# Altium integrated library Maxim Supervisors, Voltage Monitors and Sequencers.IntLib: 631 symbols (part 4 of 13)
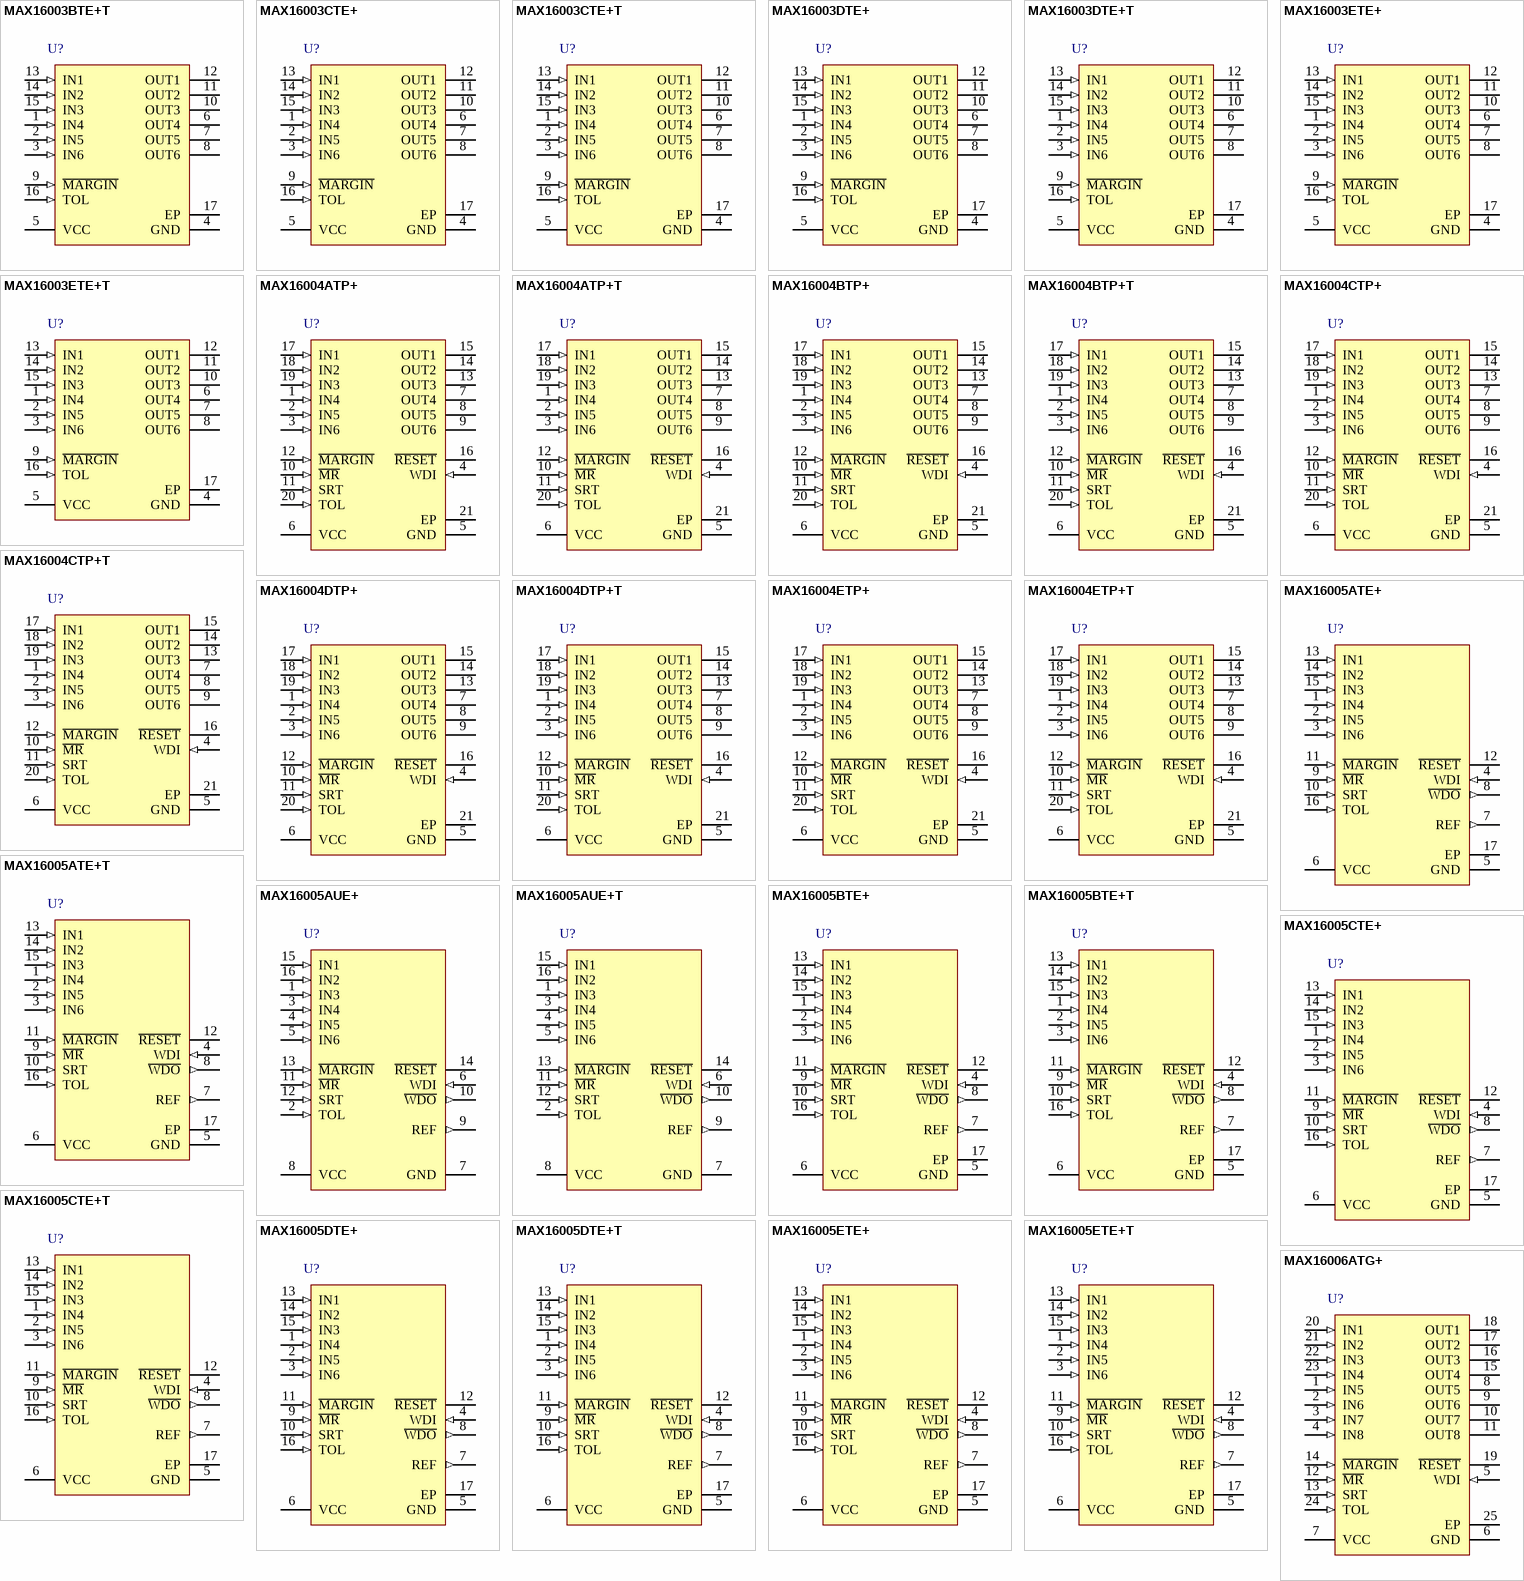
[diagram p20: symbols MAX16003BTE+T to MAX16006ATG+]

## MAX16005DTE+
designator U?
Low-Voltage, Hex-Voltage uP Supervisor , Reset, WDI/WDO, MR, adjustable reset timout, 16-Pin TQFN-EP, -40°C to +125°C, Pb-Free; DatasheetVersion: Rev 5, Oct-2010; PackageVersion: revK, 2011; PackageReference: T1644+4; PackageDescription: 16-Pin Thin Quad Flatpack, No-Leads (TQFN), 4 x 4 x 0.75 mm Body, 0.65 mm Pitch, Exposed Pad, Pb-Free; Code_JEDEC: MO-220WGGC; ComponentLink1Description: Manufacturer URL; ComponentLink1URL: http://www.maxim-ic.com; ComponentLink2Description: Datasheet; ComponentLink2URL: http://datasheets.maxim-ic.com/en/ds/MAX16000-MAX16007.pdf; ComponentLink3Description: Package Specification; ComponentLink3URL: http://pdfserv.maxim-ic.com/package_dwgs/21-0139.PDF
footprint T1644+4_N (QFN, 16-Leads, Body 4x4mm, Pitch 0.65mm, Thermal Pad 2.3x2.3mm, IPC Medium Density)
footprint T1644+4_L (QFN, 16-Leads, Body 4x4mm, Pitch 0.65mm, Thermal Pad 2.3x2.3mm, IPC High Density)
footprint T1644+4_M (QFN, 16-Leads, Body 4x4mm, Pitch 0.65mm, Thermal Pad 2.3x2.3mm, IPC Low Density)
pins: 1 IN4 (in), 2 IN5 (in), 3 IN6 (in), 4 WDI (in), 5 GND (power), 6 VCC (power), 7 REF (out), 8 ~{WDO} (out), 9 ~{MR} (in), 10 SRT (in), 11 ~{MARGIN} (in), 12 ~{RESET} (oc), 13 IN1 (in), 14 IN2 (in), 15 IN3 (in), 16 TOL (in), 17 EP (power)

## MAX16005DTE+T
designator U?
Low-Voltage, Hex-Voltage uP Supervisor , Reset, WDI/WDO, MR, adjustable reset timout, 16-Pin TQFN-EP, -40°C to +125°C, Pb-Free, Tape and Reel; DatasheetVersion: Rev 5, Oct-2010; PackageVersion: revK, 2011; PackageReference: T1644+4; PackageDescription: 16-Pin Thin Quad Flatpack, No-Leads (TQFN), 4 x 4 x 0.75 mm Body, 0.65 mm Pitch, Exposed Pad, Pb-Free; Code_JEDEC: MO-220WGGC; ComponentLink1Description: Manufacturer URL; ComponentLink1URL: http://www.maxim-ic.com; ComponentLink2Description: Datasheet; ComponentLink2URL: http://datasheets.maxim-ic.com/en/ds/MAX16000-MAX16007.pdf; ComponentLink3Description: Package Specification; ComponentLink3URL: http://pdfserv.maxim-ic.com/package_dwgs/21-0139.PDF
footprint T1644+4_N (QFN, 16-Leads, Body 4x4mm, Pitch 0.65mm, Thermal Pad 2.3x2.3mm, IPC Medium Density)
footprint T1644+4_L (QFN, 16-Leads, Body 4x4mm, Pitch 0.65mm, Thermal Pad 2.3x2.3mm, IPC High Density)
footprint T1644+4_M (QFN, 16-Leads, Body 4x4mm, Pitch 0.65mm, Thermal Pad 2.3x2.3mm, IPC Low Density)
pins: 1 IN4 (in), 2 IN5 (in), 3 IN6 (in), 4 WDI (in), 5 GND (power), 6 VCC (power), 7 REF (out), 8 ~{WDO} (out), 9 ~{MR} (in), 10 SRT (in), 11 ~{MARGIN} (in), 12 ~{RESET} (oc), 13 IN1 (in), 14 IN2 (in), 15 IN3 (in), 16 TOL (in), 17 EP (power)

## MAX16005ETE+
designator U?
Low-Voltage, Hex-Voltage uP Supervisor , Reset, WDI/WDO, MR, adjustable reset timout, 16-Pin TQFN-EP, -40°C to +125°C, Pb-Free; DatasheetVersion: Rev 5, Oct-2010; PackageVersion: revK, 2011; PackageReference: T1644+4; PackageDescription: 16-Pin Thin Quad Flatpack, No-Leads (TQFN), 4 x 4 x 0.75 mm Body, 0.65 mm Pitch, Exposed Pad, Pb-Free; Code_JEDEC: MO-220WGGC; ComponentLink1Description: Manufacturer URL; ComponentLink1URL: http://www.maxim-ic.com; ComponentLink2Description: Datasheet; ComponentLink2URL: http://datasheets.maxim-ic.com/en/ds/MAX16000-MAX16007.pdf; ComponentLink3Description: Package Specification; ComponentLink3URL: http://pdfserv.maxim-ic.com/package_dwgs/21-0139.PDF
footprint T1644+4_N (QFN, 16-Leads, Body 4x4mm, Pitch 0.65mm, Thermal Pad 2.3x2.3mm, IPC Medium Density)
footprint T1644+4_L (QFN, 16-Leads, Body 4x4mm, Pitch 0.65mm, Thermal Pad 2.3x2.3mm, IPC High Density)
footprint T1644+4_M (QFN, 16-Leads, Body 4x4mm, Pitch 0.65mm, Thermal Pad 2.3x2.3mm, IPC Low Density)
pins: 1 IN4 (in), 2 IN5 (in), 3 IN6 (in), 4 WDI (in), 5 GND (power), 6 VCC (power), 7 REF (out), 8 ~{WDO} (out), 9 ~{MR} (in), 10 SRT (in), 11 ~{MARGIN} (in), 12 ~{RESET} (oc), 13 IN1 (in), 14 IN2 (in), 15 IN3 (in), 16 TOL (in), 17 EP (power)

## MAX16005ETE+T
designator U?
Low-Voltage, Hex-Voltage uP Supervisor , Reset, WDI/WDO, MR, adjustable reset timout, 16-Pin TQFN-EP, -40°C to +125°C, Pb-Free, Tape and Reel; DatasheetVersion: Rev 5, Oct-2010; PackageVersion: revK, 2011; PackageReference: T1644+4; PackageDescription: 16-Pin Thin Quad Flatpack, No-Leads (TQFN), 4 x 4 x 0.75 mm Body, 0.65 mm Pitch, Exposed Pad, Pb-Free; Code_JEDEC: MO-220WGGC; ComponentLink1Description: Manufacturer URL; ComponentLink1URL: http://www.maxim-ic.com; ComponentLink2Description: Datasheet; ComponentLink2URL: http://datasheets.maxim-ic.com/en/ds/MAX16000-MAX16007.pdf; ComponentLink3Description: Package Specification; ComponentLink3URL: http://pdfserv.maxim-ic.com/package_dwgs/21-0139.PDF
footprint T1644+4_N (QFN, 16-Leads, Body 4x4mm, Pitch 0.65mm, Thermal Pad 2.3x2.3mm, IPC Medium Density)
footprint T1644+4_L (QFN, 16-Leads, Body 4x4mm, Pitch 0.65mm, Thermal Pad 2.3x2.3mm, IPC High Density)
footprint T1644+4_M (QFN, 16-Leads, Body 4x4mm, Pitch 0.65mm, Thermal Pad 2.3x2.3mm, IPC Low Density)
pins: 1 IN4 (in), 2 IN5 (in), 3 IN6 (in), 4 WDI (in), 5 GND (power), 6 VCC (power), 7 REF (out), 8 ~{WDO} (out), 9 ~{MR} (in), 10 SRT (in), 11 ~{MARGIN} (in), 12 ~{RESET} (oc), 13 IN1 (in), 14 IN2 (in), 15 IN3 (in), 16 TOL (in), 17 EP (power)

## MAX16006ATG+
designator U?
Low-Voltage, Octal-Voltage uP Supervisor , 8 outputs, Reset, WDI, MR, adjustable reset timout, 24-Pin TQFN-EP, -40°C to +125°C, Pb-Free; DatasheetVersion: Rev 5, Oct-2010; PackageVersion: revK, 2011; PackageReference: T2444+4; PackageDescription: 24-Pin Thin Quad Flatpack, No Leads, 4 x 4 x 0.75 mm Body, 0.5 mm Pitch, TQFN, Pb-Free; ComponentLink1Description: Manufacturer URL; ComponentLink1URL: http://www.maxim-ic.com; ComponentLink2Description: Datasheet; ComponentLink2URL: http://datasheets.maxim-ic.com/en/ds/MAX16000-MAX16007.pdf; ComponentLink3Description: Package Specification; ComponentLink3URL: http://pdfserv.maxim-ic.com/package_dwgs/21-0139.PDF
footprint T2444+4_N (QFN, 24-Leads, Body 4x4mm, Pitch 0.5mm, Thermal Pad 2.7x2.7mm, IPC Medium Density)
footprint T2444+4_L (QFN, 24-Leads, Body 4x4mm, Pitch 0.5mm, Thermal Pad 2.7x2.7mm, IPC High Density)
footprint T2444+4_M (QFN, 24-Leads, Body 4x4mm, Pitch 0.5mm, Thermal Pad 2.7x2.7mm, IPC Low Density)
pins: 1 IN5 (in), 2 IN6 (in), 3 IN7 (in), 4 IN8 (in), 5 WDI (in), 6 GND (power), 7 VCC (power), 8 OUT5 (oc), 9 OUT6 (oc), 10 OUT7 (oc), 11 OUT8 (oc), 12 ~{MR} (in), 13 SRT (in), 14 ~{MARGIN} (in), 15 OUT4 (oc), 16 OUT3 (oc), 17 OUT2 (oc), 18 OUT1 (oc), 19 ~{RESET} (oc), 20 IN1 (in), 21 IN2 (in), 22 IN3 (in), 23 IN4 (in), 24 TOL (in), 25 EP (power)

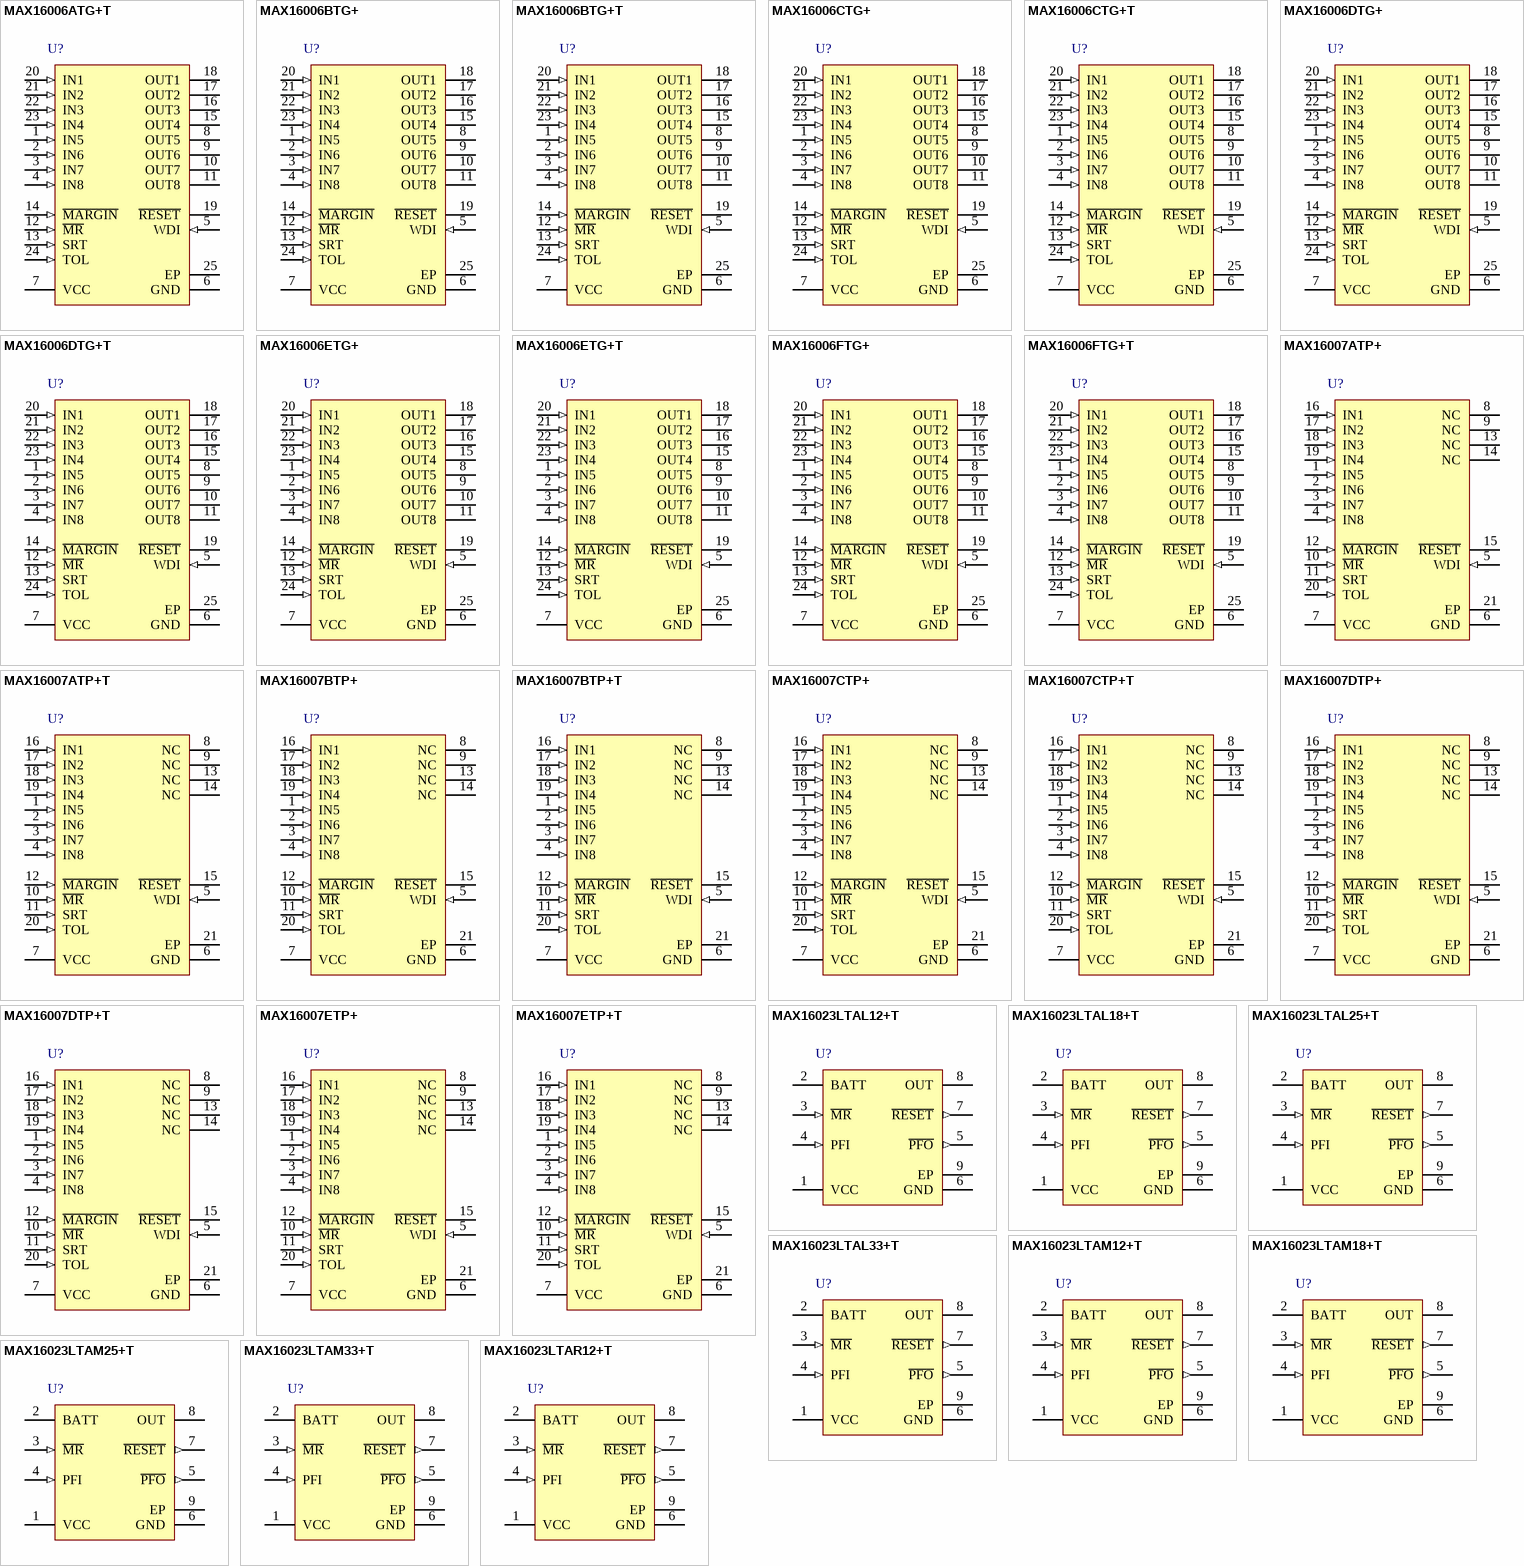
[diagram p4: symbols MAX16006ATG+T to MAX16023LTAR12+T]

## MAX16006ATG+T
designator U?
Low-Voltage, Octal-Voltage uP Supervisor , 8 outputs, Reset, WDI, MR, adjustable reset timout, 24-Pin TQFN-EP, -40°C to +125°C, Pb-Free, Tape and Reel; DatasheetVersion: Rev 5, Oct-2010; PackageVersion: revK, 2011; PackageReference: T2444+4; PackageDescription: 24-Pin Thin Quad Flatpack, No Leads, 4 x 4 x 0.75 mm Body, 0.5 mm Pitch, TQFN, Pb-Free; ComponentLink1Description: Manufacturer URL; ComponentLink1URL: http://www.maxim-ic.com; ComponentLink2Description: Datasheet; ComponentLink2URL: http://datasheets.maxim-ic.com/en/ds/MAX16000-MAX16007.pdf; ComponentLink3Description: Package Specification; ComponentLink3URL: http://pdfserv.maxim-ic.com/package_dwgs/21-0139.PDF
footprint T2444+4_N (QFN, 24-Leads, Body 4x4mm, Pitch 0.5mm, Thermal Pad 2.7x2.7mm, IPC Medium Density)
footprint T2444+4_L (QFN, 24-Leads, Body 4x4mm, Pitch 0.5mm, Thermal Pad 2.7x2.7mm, IPC High Density)
footprint T2444+4_M (QFN, 24-Leads, Body 4x4mm, Pitch 0.5mm, Thermal Pad 2.7x2.7mm, IPC Low Density)
pins: 1 IN5 (in), 2 IN6 (in), 3 IN7 (in), 4 IN8 (in), 5 WDI (in), 6 GND (power), 7 VCC (power), 8 OUT5 (oc), 9 OUT6 (oc), 10 OUT7 (oc), 11 OUT8 (oc), 12 ~{MR} (in), 13 SRT (in), 14 ~{MARGIN} (in), 15 OUT4 (oc), 16 OUT3 (oc), 17 OUT2 (oc), 18 OUT1 (oc), 19 ~{RESET} (oc), 20 IN1 (in), 21 IN2 (in), 22 IN3 (in), 23 IN4 (in), 24 TOL (in), 25 EP (power)

## MAX16006BTG+
designator U?
Low-Voltage, Octal-Voltage uP Supervisor , 8 outputs, Reset, WDI, MR, adjustable reset timout, 24-Pin TQFN-EP, -40°C to +125°C, Pb-Free; DatasheetVersion: Rev 5, Oct-2010; PackageVersion: revK, 2011; PackageReference: T2444+4; PackageDescription: 24-Pin Thin Quad Flatpack, No Leads, 4 x 4 x 0.75 mm Body, 0.5 mm Pitch, TQFN, Pb-Free; ComponentLink1Description: Manufacturer URL; ComponentLink1URL: http://www.maxim-ic.com; ComponentLink2Description: Datasheet; ComponentLink2URL: http://datasheets.maxim-ic.com/en/ds/MAX16000-MAX16007.pdf; ComponentLink3Description: Package Specification; ComponentLink3URL: http://pdfserv.maxim-ic.com/package_dwgs/21-0139.PDF
footprint T2444+4_N (QFN, 24-Leads, Body 4x4mm, Pitch 0.5mm, Thermal Pad 2.7x2.7mm, IPC Medium Density)
footprint T2444+4_L (QFN, 24-Leads, Body 4x4mm, Pitch 0.5mm, Thermal Pad 2.7x2.7mm, IPC High Density)
footprint T2444+4_M (QFN, 24-Leads, Body 4x4mm, Pitch 0.5mm, Thermal Pad 2.7x2.7mm, IPC Low Density)
pins: 1 IN5 (in), 2 IN6 (in), 3 IN7 (in), 4 IN8 (in), 5 WDI (in), 6 GND (power), 7 VCC (power), 8 OUT5 (oc), 9 OUT6 (oc), 10 OUT7 (oc), 11 OUT8 (oc), 12 ~{MR} (in), 13 SRT (in), 14 ~{MARGIN} (in), 15 OUT4 (oc), 16 OUT3 (oc), 17 OUT2 (oc), 18 OUT1 (oc), 19 ~{RESET} (oc), 20 IN1 (in), 21 IN2 (in), 22 IN3 (in), 23 IN4 (in), 24 TOL (in), 25 EP (power)

## MAX16006BTG+T
designator U?
Low-Voltage, Octal-Voltage uP Supervisor , 8 outputs, Reset, WDI, MR, adjustable reset timout, 24-Pin TQFN-EP, -40°C to +125°C, Pb-Free, Tape and Reel; DatasheetVersion: Rev 5, Oct-2010; PackageVersion: revK, 2011; PackageReference: T2444+4; PackageDescription: 24-Pin Thin Quad Flatpack, No Leads, 4 x 4 x 0.75 mm Body, 0.5 mm Pitch, TQFN, Pb-Free; ComponentLink1Description: Manufacturer URL; ComponentLink1URL: http://www.maxim-ic.com; ComponentLink2Description: Datasheet; ComponentLink2URL: http://datasheets.maxim-ic.com/en/ds/MAX16000-MAX16007.pdf; ComponentLink3Description: Package Specification; ComponentLink3URL: http://pdfserv.maxim-ic.com/package_dwgs/21-0139.PDF
footprint T2444+4_N (QFN, 24-Leads, Body 4x4mm, Pitch 0.5mm, Thermal Pad 2.7x2.7mm, IPC Medium Density)
footprint T2444+4_L (QFN, 24-Leads, Body 4x4mm, Pitch 0.5mm, Thermal Pad 2.7x2.7mm, IPC High Density)
footprint T2444+4_M (QFN, 24-Leads, Body 4x4mm, Pitch 0.5mm, Thermal Pad 2.7x2.7mm, IPC Low Density)
pins: 1 IN5 (in), 2 IN6 (in), 3 IN7 (in), 4 IN8 (in), 5 WDI (in), 6 GND (power), 7 VCC (power), 8 OUT5 (oc), 9 OUT6 (oc), 10 OUT7 (oc), 11 OUT8 (oc), 12 ~{MR} (in), 13 SRT (in), 14 ~{MARGIN} (in), 15 OUT4 (oc), 16 OUT3 (oc), 17 OUT2 (oc), 18 OUT1 (oc), 19 ~{RESET} (oc), 20 IN1 (in), 21 IN2 (in), 22 IN3 (in), 23 IN4 (in), 24 TOL (in), 25 EP (power)

## MAX16006CTG+
designator U?
Low-Voltage, Octal-Voltage uP Supervisor , 8 outputs, Reset, WDI, MR, adjustable reset timout, 24-Pin TQFN-EP, -40°C to +125°C, Pb-Free; DatasheetVersion: Rev 5, Oct-2010; PackageVersion: revK, 2011; PackageReference: T2444+4; PackageDescription: 24-Pin Thin Quad Flatpack, No Leads, 4 x 4 x 0.75 mm Body, 0.5 mm Pitch, TQFN, Pb-Free; ComponentLink1Description: Manufacturer URL; ComponentLink1URL: http://www.maxim-ic.com; ComponentLink2Description: Datasheet; ComponentLink2URL: http://datasheets.maxim-ic.com/en/ds/MAX16000-MAX16007.pdf; ComponentLink3Description: Package Specification; ComponentLink3URL: http://pdfserv.maxim-ic.com/package_dwgs/21-0139.PDF
footprint T2444+4_N (QFN, 24-Leads, Body 4x4mm, Pitch 0.5mm, Thermal Pad 2.7x2.7mm, IPC Medium Density)
footprint T2444+4_L (QFN, 24-Leads, Body 4x4mm, Pitch 0.5mm, Thermal Pad 2.7x2.7mm, IPC High Density)
footprint T2444+4_M (QFN, 24-Leads, Body 4x4mm, Pitch 0.5mm, Thermal Pad 2.7x2.7mm, IPC Low Density)
pins: 1 IN5 (in), 2 IN6 (in), 3 IN7 (in), 4 IN8 (in), 5 WDI (in), 6 GND (power), 7 VCC (power), 8 OUT5 (oc), 9 OUT6 (oc), 10 OUT7 (oc), 11 OUT8 (oc), 12 ~{MR} (in), 13 SRT (in), 14 ~{MARGIN} (in), 15 OUT4 (oc), 16 OUT3 (oc), 17 OUT2 (oc), 18 OUT1 (oc), 19 ~{RESET} (oc), 20 IN1 (in), 21 IN2 (in), 22 IN3 (in), 23 IN4 (in), 24 TOL (in), 25 EP (power)

## MAX16006CTG+T
designator U?
Low-Voltage, Octal-Voltage uP Supervisor , 8 outputs, Reset, WDI, MR, adjustable reset timout, 24-Pin TQFN-EP, -40°C to +125°C, Pb-Free, Tape and Reel; DatasheetVersion: Rev 5, Oct-2010; PackageVersion: revK, 2011; PackageReference: T2444+4; PackageDescription: 24-Pin Thin Quad Flatpack, No Leads, 4 x 4 x 0.75 mm Body, 0.5 mm Pitch, TQFN, Pb-Free; ComponentLink1Description: Manufacturer URL; ComponentLink1URL: http://www.maxim-ic.com; ComponentLink2Description: Datasheet; ComponentLink2URL: http://datasheets.maxim-ic.com/en/ds/MAX16000-MAX16007.pdf; ComponentLink3Description: Package Specification; ComponentLink3URL: http://pdfserv.maxim-ic.com/package_dwgs/21-0139.PDF
footprint T2444+4_N (QFN, 24-Leads, Body 4x4mm, Pitch 0.5mm, Thermal Pad 2.7x2.7mm, IPC Medium Density)
footprint T2444+4_L (QFN, 24-Leads, Body 4x4mm, Pitch 0.5mm, Thermal Pad 2.7x2.7mm, IPC High Density)
footprint T2444+4_M (QFN, 24-Leads, Body 4x4mm, Pitch 0.5mm, Thermal Pad 2.7x2.7mm, IPC Low Density)
pins: 1 IN5 (in), 2 IN6 (in), 3 IN7 (in), 4 IN8 (in), 5 WDI (in), 6 GND (power), 7 VCC (power), 8 OUT5 (oc), 9 OUT6 (oc), 10 OUT7 (oc), 11 OUT8 (oc), 12 ~{MR} (in), 13 SRT (in), 14 ~{MARGIN} (in), 15 OUT4 (oc), 16 OUT3 (oc), 17 OUT2 (oc), 18 OUT1 (oc), 19 ~{RESET} (oc), 20 IN1 (in), 21 IN2 (in), 22 IN3 (in), 23 IN4 (in), 24 TOL (in), 25 EP (power)

## MAX16006DTG+
designator U?
Low-Voltage, Octal-Voltage uP Supervisor , 8 outputs, Reset, WDI, MR, adjustable reset timout, 24-Pin TQFN-EP, -40°C to +125°C, Pb-Free; DatasheetVersion: Rev 5, Oct-2010; PackageVersion: revK, 2011; PackageReference: T2444+4; PackageDescription: 24-Pin Thin Quad Flatpack, No Leads, 4 x 4 x 0.75 mm Body, 0.5 mm Pitch, TQFN, Pb-Free; ComponentLink1Description: Manufacturer URL; ComponentLink1URL: http://www.maxim-ic.com; ComponentLink2Description: Datasheet; ComponentLink2URL: http://datasheets.maxim-ic.com/en/ds/MAX16000-MAX16007.pdf; ComponentLink3Description: Package Specification; ComponentLink3URL: http://pdfserv.maxim-ic.com/package_dwgs/21-0139.PDF
footprint T2444+4_N (QFN, 24-Leads, Body 4x4mm, Pitch 0.5mm, Thermal Pad 2.7x2.7mm, IPC Medium Density)
footprint T2444+4_L (QFN, 24-Leads, Body 4x4mm, Pitch 0.5mm, Thermal Pad 2.7x2.7mm, IPC High Density)
footprint T2444+4_M (QFN, 24-Leads, Body 4x4mm, Pitch 0.5mm, Thermal Pad 2.7x2.7mm, IPC Low Density)
pins: 1 IN5 (in), 2 IN6 (in), 3 IN7 (in), 4 IN8 (in), 5 WDI (in), 6 GND (power), 7 VCC (power), 8 OUT5 (oc), 9 OUT6 (oc), 10 OUT7 (oc), 11 OUT8 (oc), 12 ~{MR} (in), 13 SRT (in), 14 ~{MARGIN} (in), 15 OUT4 (oc), 16 OUT3 (oc), 17 OUT2 (oc), 18 OUT1 (oc), 19 ~{RESET} (oc), 20 IN1 (in), 21 IN2 (in), 22 IN3 (in), 23 IN4 (in), 24 TOL (in), 25 EP (power)

## MAX16006DTG+T
designator U?
Low-Voltage, Octal-Voltage uP Supervisor , 8 outputs, Reset, WDI, MR, adjustable reset timout, 24-Pin TQFN-EP, -40°C to +125°C, Pb-Free, Tape and Reel; DatasheetVersion: Rev 5, Oct-2010; PackageVersion: revK, 2011; PackageReference: T2444+4; PackageDescription: 24-Pin Thin Quad Flatpack, No Leads, 4 x 4 x 0.75 mm Body, 0.5 mm Pitch, TQFN, Pb-Free; ComponentLink1Description: Manufacturer URL; ComponentLink1URL: http://www.maxim-ic.com; ComponentLink2Description: Datasheet; ComponentLink2URL: http://datasheets.maxim-ic.com/en/ds/MAX16000-MAX16007.pdf; ComponentLink3Description: Package Specification; ComponentLink3URL: http://pdfserv.maxim-ic.com/package_dwgs/21-0139.PDF
footprint T2444+4_N (QFN, 24-Leads, Body 4x4mm, Pitch 0.5mm, Thermal Pad 2.7x2.7mm, IPC Medium Density)
footprint T2444+4_L (QFN, 24-Leads, Body 4x4mm, Pitch 0.5mm, Thermal Pad 2.7x2.7mm, IPC High Density)
footprint T2444+4_M (QFN, 24-Leads, Body 4x4mm, Pitch 0.5mm, Thermal Pad 2.7x2.7mm, IPC Low Density)
pins: 1 IN5 (in), 2 IN6 (in), 3 IN7 (in), 4 IN8 (in), 5 WDI (in), 6 GND (power), 7 VCC (power), 8 OUT5 (oc), 9 OUT6 (oc), 10 OUT7 (oc), 11 OUT8 (oc), 12 ~{MR} (in), 13 SRT (in), 14 ~{MARGIN} (in), 15 OUT4 (oc), 16 OUT3 (oc), 17 OUT2 (oc), 18 OUT1 (oc), 19 ~{RESET} (oc), 20 IN1 (in), 21 IN2 (in), 22 IN3 (in), 23 IN4 (in), 24 TOL (in), 25 EP (power)

## MAX16006ETG+
designator U?
Low-Voltage, Octal-Voltage uP Supervisor , 8 outputs, Reset, WDI, MR, adjustable reset timout, 24-Pin TQFN-EP, -40°C to +125°C, Pb-Free; DatasheetVersion: Rev 5, Oct-2010; PackageVersion: revK, 2011; PackageReference: T2444+4; PackageDescription: 24-Pin Thin Quad Flatpack, No Leads, 4 x 4 x 0.75 mm Body, 0.5 mm Pitch, TQFN, Pb-Free; ComponentLink1Description: Manufacturer URL; ComponentLink1URL: http://www.maxim-ic.com; ComponentLink2Description: Datasheet; ComponentLink2URL: http://datasheets.maxim-ic.com/en/ds/MAX16000-MAX16007.pdf; ComponentLink3Description: Package Specification; ComponentLink3URL: http://pdfserv.maxim-ic.com/package_dwgs/21-0139.PDF
footprint T2444+4_N (QFN, 24-Leads, Body 4x4mm, Pitch 0.5mm, Thermal Pad 2.7x2.7mm, IPC Medium Density)
footprint T2444+4_L (QFN, 24-Leads, Body 4x4mm, Pitch 0.5mm, Thermal Pad 2.7x2.7mm, IPC High Density)
footprint T2444+4_M (QFN, 24-Leads, Body 4x4mm, Pitch 0.5mm, Thermal Pad 2.7x2.7mm, IPC Low Density)
pins: 1 IN5 (in), 2 IN6 (in), 3 IN7 (in), 4 IN8 (in), 5 WDI (in), 6 GND (power), 7 VCC (power), 8 OUT5 (oc), 9 OUT6 (oc), 10 OUT7 (oc), 11 OUT8 (oc), 12 ~{MR} (in), 13 SRT (in), 14 ~{MARGIN} (in), 15 OUT4 (oc), 16 OUT3 (oc), 17 OUT2 (oc), 18 OUT1 (oc), 19 ~{RESET} (oc), 20 IN1 (in), 21 IN2 (in), 22 IN3 (in), 23 IN4 (in), 24 TOL (in), 25 EP (power)

## MAX16006ETG+T
designator U?
Low-Voltage, Octal-Voltage uP Supervisor , 8 outputs, Reset, WDI, MR, adjustable reset timout, 24-Pin TQFN-EP, -40°C to +125°C, Pb-Free, Tape and Reel; DatasheetVersion: Rev 5, Oct-2010; PackageVersion: revK, 2011; PackageReference: T2444+4; PackageDescription: 24-Pin Thin Quad Flatpack, No Leads, 4 x 4 x 0.75 mm Body, 0.5 mm Pitch, TQFN, Pb-Free; ComponentLink1Description: Manufacturer URL; ComponentLink1URL: http://www.maxim-ic.com; ComponentLink2Description: Datasheet; ComponentLink2URL: http://datasheets.maxim-ic.com/en/ds/MAX16000-MAX16007.pdf; ComponentLink3Description: Package Specification; ComponentLink3URL: http://pdfserv.maxim-ic.com/package_dwgs/21-0139.PDF
footprint T2444+4_N (QFN, 24-Leads, Body 4x4mm, Pitch 0.5mm, Thermal Pad 2.7x2.7mm, IPC Medium Density)
footprint T2444+4_L (QFN, 24-Leads, Body 4x4mm, Pitch 0.5mm, Thermal Pad 2.7x2.7mm, IPC High Density)
footprint T2444+4_M (QFN, 24-Leads, Body 4x4mm, Pitch 0.5mm, Thermal Pad 2.7x2.7mm, IPC Low Density)
pins: 1 IN5 (in), 2 IN6 (in), 3 IN7 (in), 4 IN8 (in), 5 WDI (in), 6 GND (power), 7 VCC (power), 8 OUT5 (oc), 9 OUT6 (oc), 10 OUT7 (oc), 11 OUT8 (oc), 12 ~{MR} (in), 13 SRT (in), 14 ~{MARGIN} (in), 15 OUT4 (oc), 16 OUT3 (oc), 17 OUT2 (oc), 18 OUT1 (oc), 19 ~{RESET} (oc), 20 IN1 (in), 21 IN2 (in), 22 IN3 (in), 23 IN4 (in), 24 TOL (in), 25 EP (power)

## MAX16006FTG+
designator U?
Low-Voltage, Octal-Voltage uP Supervisor , 8 outputs, Reset, WDI, MR, adjustable reset timout, 24-Pin TQFN-EP, -40°C to +125°C, Pb-Free; DatasheetVersion: Rev 5, Oct-2010; PackageVersion: revK, 2011; PackageReference: T2444+4; PackageDescription: 24-Pin Thin Quad Flatpack, No Leads, 4 x 4 x 0.75 mm Body, 0.5 mm Pitch, TQFN, Pb-Free; ComponentLink1Description: Manufacturer URL; ComponentLink1URL: http://www.maxim-ic.com; ComponentLink2Description: Datasheet; ComponentLink2URL: http://datasheets.maxim-ic.com/en/ds/MAX16000-MAX16007.pdf; ComponentLink3Description: Package Specification; ComponentLink3URL: http://pdfserv.maxim-ic.com/package_dwgs/21-0139.PDF
footprint T2444+4_N (QFN, 24-Leads, Body 4x4mm, Pitch 0.5mm, Thermal Pad 2.7x2.7mm, IPC Medium Density)
footprint T2444+4_L (QFN, 24-Leads, Body 4x4mm, Pitch 0.5mm, Thermal Pad 2.7x2.7mm, IPC High Density)
footprint T2444+4_M (QFN, 24-Leads, Body 4x4mm, Pitch 0.5mm, Thermal Pad 2.7x2.7mm, IPC Low Density)
pins: 1 IN5 (in), 2 IN6 (in), 3 IN7 (in), 4 IN8 (in), 5 WDI (in), 6 GND (power), 7 VCC (power), 8 OUT5 (oc), 9 OUT6 (oc), 10 OUT7 (oc), 11 OUT8 (oc), 12 ~{MR} (in), 13 SRT (in), 14 ~{MARGIN} (in), 15 OUT4 (oc), 16 OUT3 (oc), 17 OUT2 (oc), 18 OUT1 (oc), 19 ~{RESET} (oc), 20 IN1 (in), 21 IN2 (in), 22 IN3 (in), 23 IN4 (in), 24 TOL (in), 25 EP (power)

## MAX16006FTG+T
designator U?
Low-Voltage, Octal-Voltage uP Supervisor , 8 outputs, Reset, WDI, MR, adjustable reset timout, 24-Pin TQFN-EP, -40°C to +125°C, Pb-Free, Tape and Reel; DatasheetVersion: Rev 5, Oct-2010; PackageVersion: revK, 2011; PackageReference: T2444+4; PackageDescription: 24-Pin Thin Quad Flatpack, No Leads, 4 x 4 x 0.75 mm Body, 0.5 mm Pitch, TQFN, Pb-Free; ComponentLink1Description: Manufacturer URL; ComponentLink1URL: http://www.maxim-ic.com; ComponentLink2Description: Datasheet; ComponentLink2URL: http://datasheets.maxim-ic.com/en/ds/MAX16000-MAX16007.pdf; ComponentLink3Description: Package Specification; ComponentLink3URL: http://pdfserv.maxim-ic.com/package_dwgs/21-0139.PDF
footprint T2444+4_N (QFN, 24-Leads, Body 4x4mm, Pitch 0.5mm, Thermal Pad 2.7x2.7mm, IPC Medium Density)
footprint T2444+4_L (QFN, 24-Leads, Body 4x4mm, Pitch 0.5mm, Thermal Pad 2.7x2.7mm, IPC High Density)
footprint T2444+4_M (QFN, 24-Leads, Body 4x4mm, Pitch 0.5mm, Thermal Pad 2.7x2.7mm, IPC Low Density)
pins: 1 IN5 (in), 2 IN6 (in), 3 IN7 (in), 4 IN8 (in), 5 WDI (in), 6 GND (power), 7 VCC (power), 8 OUT5 (oc), 9 OUT6 (oc), 10 OUT7 (oc), 11 OUT8 (oc), 12 ~{MR} (in), 13 SRT (in), 14 ~{MARGIN} (in), 15 OUT4 (oc), 16 OUT3 (oc), 17 OUT2 (oc), 18 OUT1 (oc), 19 ~{RESET} (oc), 20 IN1 (in), 21 IN2 (in), 22 IN3 (in), 23 IN4 (in), 24 TOL (in), 25 EP (power)

## MAX16007ATP+
designator U?
Low-Voltage, Octal-Voltage uP Supervisor , Reset, WDI, MR, adjustable reset timout, 20-Pin TQFN-EP, -40°C to +125°C, Pb-Free; DatasheetVersion: Rev 5, Oct-2010; PackageVersion: revK, 2011; PackageReference: T2044+3; PackageDescription: 20-Pin Thin Quad Flatpack, No-Leads, 4 x 4 x 0.75 mm Body, 0.5 mm Pitch, TQFN, Pb-Free; Code_JEDEC: MO-220; ComponentLink1Description: Manufacturer URL; ComponentLink1URL: http://www.maxim-ic.com; ComponentLink2Description: Datasheet; ComponentLink2URL: http://datasheets.maxim-ic.com/en/ds/MAX16000-MAX16007.pdf; ComponentLink3Description: Package Specification; ComponentLink3URL: http://pdfserv.maxim-ic.com/package_dwgs/21-0139.PDF
footprint T2044+3_N (QFN, 20-Leads, Body 4x4mm, Pitch 0.5mm, Thermal Pad 2.1x2.1mm, IPC Medium Density)
footprint T2044+3_L (QFN, 20-Leads, Body 4x4mm, Pitch 0.5mm, Thermal Pad 2.1x2.1mm, IPC High Density)
footprint T2044+3_M (QFN, 20-Leads, Body 4x4mm, Pitch 0.5mm, Thermal Pad 2.1x2.1mm, IPC Low Density)
pins: 1 IN5 (in), 2 IN6 (in), 3 IN7 (in), 4 IN8 (in), 5 WDI (in), 6 GND (power), 7 VCC (power), 8 NC, 9 NC, 10 ~{MR} (in), 11 SRT (in), 12 ~{MARGIN} (in), 13 NC, 14 NC, 15 ~{RESET} (oc), 16 IN1 (in), 17 IN2 (in), 18 IN3 (in), 19 IN4 (in), 20 TOL (in), 21 EP (power)

## MAX16007ATP+T
designator U?
Low-Voltage, Octal-Voltage uP Supervisor , Reset, WDI, MR, adjustable reset timout, 20-Pin TQFN-EP, -40°C to +125°C, Pb-Free, Tape and Reel; DatasheetVersion: Rev 5, Oct-2010; PackageVersion: revK, 2011; PackageReference: T2044+3; PackageDescription: 20-Pin Thin Quad Flatpack, No-Leads, 4 x 4 x 0.75 mm Body, 0.5 mm Pitch, TQFN, Pb-Free; Code_JEDEC: MO-220; ComponentLink1Description: Manufacturer URL; ComponentLink1URL: http://www.maxim-ic.com; ComponentLink2Description: Datasheet; ComponentLink2URL: http://datasheets.maxim-ic.com/en/ds/MAX16000-MAX16007.pdf; ComponentLink3Description: Package Specification; ComponentLink3URL: http://pdfserv.maxim-ic.com/package_dwgs/21-0139.PDF
footprint T2044+3_N (QFN, 20-Leads, Body 4x4mm, Pitch 0.5mm, Thermal Pad 2.1x2.1mm, IPC Medium Density)
footprint T2044+3_L (QFN, 20-Leads, Body 4x4mm, Pitch 0.5mm, Thermal Pad 2.1x2.1mm, IPC High Density)
footprint T2044+3_M (QFN, 20-Leads, Body 4x4mm, Pitch 0.5mm, Thermal Pad 2.1x2.1mm, IPC Low Density)
pins: 1 IN5 (in), 2 IN6 (in), 3 IN7 (in), 4 IN8 (in), 5 WDI (in), 6 GND (power), 7 VCC (power), 8 NC, 9 NC, 10 ~{MR} (in), 11 SRT (in), 12 ~{MARGIN} (in), 13 NC, 14 NC, 15 ~{RESET} (oc), 16 IN1 (in), 17 IN2 (in), 18 IN3 (in), 19 IN4 (in), 20 TOL (in), 21 EP (power)

## MAX16007BTP+
designator U?
Low-Voltage, Octal-Voltage uP Supervisor , Reset, WDI, MR, adjustable reset timout, 20-Pin TQFN-EP, -40°C to +125°C, Pb-Free; DatasheetVersion: Rev 5, Oct-2010; PackageVersion: revK, 2011; PackageReference: T2044+3; PackageDescription: 20-Pin Thin Quad Flatpack, No-Leads, 4 x 4 x 0.75 mm Body, 0.5 mm Pitch, TQFN, Pb-Free; Code_JEDEC: MO-220; ComponentLink1Description: Manufacturer URL; ComponentLink1URL: http://www.maxim-ic.com; ComponentLink2Description: Datasheet; ComponentLink2URL: http://datasheets.maxim-ic.com/en/ds/MAX16000-MAX16007.pdf; ComponentLink3Description: Package Specification; ComponentLink3URL: http://pdfserv.maxim-ic.com/package_dwgs/21-0139.PDF
footprint T2044+3_N (QFN, 20-Leads, Body 4x4mm, Pitch 0.5mm, Thermal Pad 2.1x2.1mm, IPC Medium Density)
footprint T2044+3_L (QFN, 20-Leads, Body 4x4mm, Pitch 0.5mm, Thermal Pad 2.1x2.1mm, IPC High Density)
footprint T2044+3_M (QFN, 20-Leads, Body 4x4mm, Pitch 0.5mm, Thermal Pad 2.1x2.1mm, IPC Low Density)
pins: 1 IN5 (in), 2 IN6 (in), 3 IN7 (in), 4 IN8 (in), 5 WDI (in), 6 GND (power), 7 VCC (power), 8 NC, 9 NC, 10 ~{MR} (in), 11 SRT (in), 12 ~{MARGIN} (in), 13 NC, 14 NC, 15 ~{RESET} (oc), 16 IN1 (in), 17 IN2 (in), 18 IN3 (in), 19 IN4 (in), 20 TOL (in), 21 EP (power)

## MAX16007BTP+T
designator U?
Low-Voltage, Octal-Voltage uP Supervisor , Reset, WDI, MR, adjustable reset timout, 20-Pin TQFN-EP, -40°C to +125°C, Pb-Free, Tape and Reel; DatasheetVersion: Rev 5, Oct-2010; PackageVersion: revK, 2011; PackageReference: T2044+3; PackageDescription: 20-Pin Thin Quad Flatpack, No-Leads, 4 x 4 x 0.75 mm Body, 0.5 mm Pitch, TQFN, Pb-Free; Code_JEDEC: MO-220; ComponentLink1Description: Manufacturer URL; ComponentLink1URL: http://www.maxim-ic.com; ComponentLink2Description: Datasheet; ComponentLink2URL: http://datasheets.maxim-ic.com/en/ds/MAX16000-MAX16007.pdf; ComponentLink3Description: Package Specification; ComponentLink3URL: http://pdfserv.maxim-ic.com/package_dwgs/21-0139.PDF
footprint T2044+3_N (QFN, 20-Leads, Body 4x4mm, Pitch 0.5mm, Thermal Pad 2.1x2.1mm, IPC Medium Density)
footprint T2044+3_L (QFN, 20-Leads, Body 4x4mm, Pitch 0.5mm, Thermal Pad 2.1x2.1mm, IPC High Density)
footprint T2044+3_M (QFN, 20-Leads, Body 4x4mm, Pitch 0.5mm, Thermal Pad 2.1x2.1mm, IPC Low Density)
pins: 1 IN5 (in), 2 IN6 (in), 3 IN7 (in), 4 IN8 (in), 5 WDI (in), 6 GND (power), 7 VCC (power), 8 NC, 9 NC, 10 ~{MR} (in), 11 SRT (in), 12 ~{MARGIN} (in), 13 NC, 14 NC, 15 ~{RESET} (oc), 16 IN1 (in), 17 IN2 (in), 18 IN3 (in), 19 IN4 (in), 20 TOL (in), 21 EP (power)

## MAX16007CTP+
designator U?
Low-Voltage, Octal-Voltage uP Supervisor , Reset, WDI, MR, adjustable reset timout, 20-Pin TQFN-EP, -40°C to +125°C, Pb-Free; DatasheetVersion: Rev 5, Oct-2010; PackageVersion: revK, 2011; PackageReference: T2044+3; PackageDescription: 20-Pin Thin Quad Flatpack, No-Leads, 4 x 4 x 0.75 mm Body, 0.5 mm Pitch, TQFN, Pb-Free; Code_JEDEC: MO-220; ComponentLink1Description: Manufacturer URL; ComponentLink1URL: http://www.maxim-ic.com; ComponentLink2Description: Datasheet; ComponentLink2URL: http://datasheets.maxim-ic.com/en/ds/MAX16000-MAX16007.pdf; ComponentLink3Description: Package Specification; ComponentLink3URL: http://pdfserv.maxim-ic.com/package_dwgs/21-0139.PDF
footprint T2044+3_N (QFN, 20-Leads, Body 4x4mm, Pitch 0.5mm, Thermal Pad 2.1x2.1mm, IPC Medium Density)
footprint T2044+3_L (QFN, 20-Leads, Body 4x4mm, Pitch 0.5mm, Thermal Pad 2.1x2.1mm, IPC High Density)
footprint T2044+3_M (QFN, 20-Leads, Body 4x4mm, Pitch 0.5mm, Thermal Pad 2.1x2.1mm, IPC Low Density)
pins: 1 IN5 (in), 2 IN6 (in), 3 IN7 (in), 4 IN8 (in), 5 WDI (in), 6 GND (power), 7 VCC (power), 8 NC, 9 NC, 10 ~{MR} (in), 11 SRT (in), 12 ~{MARGIN} (in), 13 NC, 14 NC, 15 ~{RESET} (oc), 16 IN1 (in), 17 IN2 (in), 18 IN3 (in), 19 IN4 (in), 20 TOL (in), 21 EP (power)

## MAX16007CTP+T
designator U?
Low-Voltage, Octal-Voltage uP Supervisor , Reset, WDI, MR, adjustable reset timout, 20-Pin TQFN-EP, -40°C to +125°C, Pb-Free, Tape and Reel; DatasheetVersion: Rev 5, Oct-2010; PackageVersion: revK, 2011; PackageReference: T2044+3; PackageDescription: 20-Pin Thin Quad Flatpack, No-Leads, 4 x 4 x 0.75 mm Body, 0.5 mm Pitch, TQFN, Pb-Free; Code_JEDEC: MO-220; ComponentLink1Description: Manufacturer URL; ComponentLink1URL: http://www.maxim-ic.com; ComponentLink2Description: Datasheet; ComponentLink2URL: http://datasheets.maxim-ic.com/en/ds/MAX16000-MAX16007.pdf; ComponentLink3Description: Package Specification; ComponentLink3URL: http://pdfserv.maxim-ic.com/package_dwgs/21-0139.PDF
footprint T2044+3_N (QFN, 20-Leads, Body 4x4mm, Pitch 0.5mm, Thermal Pad 2.1x2.1mm, IPC Medium Density)
footprint T2044+3_L (QFN, 20-Leads, Body 4x4mm, Pitch 0.5mm, Thermal Pad 2.1x2.1mm, IPC High Density)
footprint T2044+3_M (QFN, 20-Leads, Body 4x4mm, Pitch 0.5mm, Thermal Pad 2.1x2.1mm, IPC Low Density)
pins: 1 IN5 (in), 2 IN6 (in), 3 IN7 (in), 4 IN8 (in), 5 WDI (in), 6 GND (power), 7 VCC (power), 8 NC, 9 NC, 10 ~{MR} (in), 11 SRT (in), 12 ~{MARGIN} (in), 13 NC, 14 NC, 15 ~{RESET} (oc), 16 IN1 (in), 17 IN2 (in), 18 IN3 (in), 19 IN4 (in), 20 TOL (in), 21 EP (power)

## MAX16007DTP+
designator U?
Low-Voltage, Octal-Voltage uP Supervisor , Reset, WDI, MR, adjustable reset timout, 20-Pin TQFN-EP, -40°C to +125°C, Pb-Free; DatasheetVersion: Rev 5, Oct-2010; PackageVersion: revK, 2011; PackageReference: T2044+3; PackageDescription: 20-Pin Thin Quad Flatpack, No-Leads, 4 x 4 x 0.75 mm Body, 0.5 mm Pitch, TQFN, Pb-Free; Code_JEDEC: MO-220; ComponentLink1Description: Manufacturer URL; ComponentLink1URL: http://www.maxim-ic.com; ComponentLink2Description: Datasheet; ComponentLink2URL: http://datasheets.maxim-ic.com/en/ds/MAX16000-MAX16007.pdf; ComponentLink3Description: Package Specification; ComponentLink3URL: http://pdfserv.maxim-ic.com/package_dwgs/21-0139.PDF
footprint T2044+3_N (QFN, 20-Leads, Body 4x4mm, Pitch 0.5mm, Thermal Pad 2.1x2.1mm, IPC Medium Density)
footprint T2044+3_L (QFN, 20-Leads, Body 4x4mm, Pitch 0.5mm, Thermal Pad 2.1x2.1mm, IPC High Density)
footprint T2044+3_M (QFN, 20-Leads, Body 4x4mm, Pitch 0.5mm, Thermal Pad 2.1x2.1mm, IPC Low Density)
pins: 1 IN5 (in), 2 IN6 (in), 3 IN7 (in), 4 IN8 (in), 5 WDI (in), 6 GND (power), 7 VCC (power), 8 NC, 9 NC, 10 ~{MR} (in), 11 SRT (in), 12 ~{MARGIN} (in), 13 NC, 14 NC, 15 ~{RESET} (oc), 16 IN1 (in), 17 IN2 (in), 18 IN3 (in), 19 IN4 (in), 20 TOL (in), 21 EP (power)

## MAX16007DTP+T
designator U?
Low-Voltage, Octal-Voltage uP Supervisor , Reset, WDI, MR, adjustable reset timout, 20-Pin TQFN-EP, -40°C to +125°C, Pb-Free, Tape and Reel; DatasheetVersion: Rev 5, Oct-2010; PackageVersion: revK, 2011; PackageReference: T2044+3; PackageDescription: 20-Pin Thin Quad Flatpack, No-Leads, 4 x 4 x 0.75 mm Body, 0.5 mm Pitch, TQFN, Pb-Free; Code_JEDEC: MO-220; ComponentLink1Description: Manufacturer URL; ComponentLink1URL: http://www.maxim-ic.com; ComponentLink2Description: Datasheet; ComponentLink2URL: http://datasheets.maxim-ic.com/en/ds/MAX16000-MAX16007.pdf; ComponentLink3Description: Package Specification; ComponentLink3URL: http://pdfserv.maxim-ic.com/package_dwgs/21-0139.PDF
footprint T2044+3_N (QFN, 20-Leads, Body 4x4mm, Pitch 0.5mm, Thermal Pad 2.1x2.1mm, IPC Medium Density)
footprint T2044+3_L (QFN, 20-Leads, Body 4x4mm, Pitch 0.5mm, Thermal Pad 2.1x2.1mm, IPC High Density)
footprint T2044+3_M (QFN, 20-Leads, Body 4x4mm, Pitch 0.5mm, Thermal Pad 2.1x2.1mm, IPC Low Density)
pins: 1 IN5 (in), 2 IN6 (in), 3 IN7 (in), 4 IN8 (in), 5 WDI (in), 6 GND (power), 7 VCC (power), 8 NC, 9 NC, 10 ~{MR} (in), 11 SRT (in), 12 ~{MARGIN} (in), 13 NC, 14 NC, 15 ~{RESET} (oc), 16 IN1 (in), 17 IN2 (in), 18 IN3 (in), 19 IN4 (in), 20 TOL (in), 21 EP (power)

## MAX16007ETP+
designator U?
Low-Voltage, Octal-Voltage uP Supervisor , Reset, WDI, MR, adjustable reset timout, 20-Pin TQFN-EP, -40°C to +125°C, Pb-Free; DatasheetVersion: Rev 5, Oct-2010; PackageVersion: revK, 2011; PackageReference: T2044+3; PackageDescription: 20-Pin Thin Quad Flatpack, No-Leads, 4 x 4 x 0.75 mm Body, 0.5 mm Pitch, TQFN, Pb-Free; Code_JEDEC: MO-220; ComponentLink1Description: Manufacturer URL; ComponentLink1URL: http://www.maxim-ic.com; ComponentLink2Description: Datasheet; ComponentLink2URL: http://datasheets.maxim-ic.com/en/ds/MAX16000-MAX16007.pdf; ComponentLink3Description: Package Specification; ComponentLink3URL: http://pdfserv.maxim-ic.com/package_dwgs/21-0139.PDF
footprint T2044+3_N (QFN, 20-Leads, Body 4x4mm, Pitch 0.5mm, Thermal Pad 2.1x2.1mm, IPC Medium Density)
footprint T2044+3_L (QFN, 20-Leads, Body 4x4mm, Pitch 0.5mm, Thermal Pad 2.1x2.1mm, IPC High Density)
footprint T2044+3_M (QFN, 20-Leads, Body 4x4mm, Pitch 0.5mm, Thermal Pad 2.1x2.1mm, IPC Low Density)
pins: 1 IN5 (in), 2 IN6 (in), 3 IN7 (in), 4 IN8 (in), 5 WDI (in), 6 GND (power), 7 VCC (power), 8 NC, 9 NC, 10 ~{MR} (in), 11 SRT (in), 12 ~{MARGIN} (in), 13 NC, 14 NC, 15 ~{RESET} (oc), 16 IN1 (in), 17 IN2 (in), 18 IN3 (in), 19 IN4 (in), 20 TOL (in), 21 EP (power)

## MAX16007ETP+T
designator U?
Low-Voltage, Octal-Voltage uP Supervisor , Reset, WDI, MR, adjustable reset timout, 20-Pin TQFN-EP, -40°C to +125°C, Pb-Free, Tape and Reel; DatasheetVersion: Rev 5, Oct-2010; PackageVersion: revK, 2011; PackageReference: T2044+3; PackageDescription: 20-Pin Thin Quad Flatpack, No-Leads, 4 x 4 x 0.75 mm Body, 0.5 mm Pitch, TQFN, Pb-Free; Code_JEDEC: MO-220; ComponentLink1Description: Manufacturer URL; ComponentLink1URL: http://www.maxim-ic.com; ComponentLink2Description: Datasheet; ComponentLink2URL: http://datasheets.maxim-ic.com/en/ds/MAX16000-MAX16007.pdf; ComponentLink3Description: Package Specification; ComponentLink3URL: http://pdfserv.maxim-ic.com/package_dwgs/21-0139.PDF
footprint T2044+3_N (QFN, 20-Leads, Body 4x4mm, Pitch 0.5mm, Thermal Pad 2.1x2.1mm, IPC Medium Density)
footprint T2044+3_L (QFN, 20-Leads, Body 4x4mm, Pitch 0.5mm, Thermal Pad 2.1x2.1mm, IPC High Density)
footprint T2044+3_M (QFN, 20-Leads, Body 4x4mm, Pitch 0.5mm, Thermal Pad 2.1x2.1mm, IPC Low Density)
pins: 1 IN5 (in), 2 IN6 (in), 3 IN7 (in), 4 IN8 (in), 5 WDI (in), 6 GND (power), 7 VCC (power), 8 NC, 9 NC, 10 ~{MR} (in), 11 SRT (in), 12 ~{MARGIN} (in), 13 NC, 14 NC, 15 ~{RESET} (oc), 16 IN1 (in), 17 IN2 (in), 18 IN3 (in), 19 IN4 (in), 20 TOL (in), 21 EP (power)

## MAX16023LTAL12+T
designator U?
Battery-Backup Circuit with Regulated Output Voltage, 1.2V; 1.8V, 2.5V, 3.0V, 3.3V output, 8-Pin TDFN, -40°C to +85°C, Pb-Free, Tape and Reel; DatasheetVersion: Rev 0, Aug-2008; PackageVersion: revJ, 2009; PackageReference: T833+2; PackageDescription: 8-Pin Plastic Very Very Thin Dual Flatpack No Leads, Exposed Pad, 3 x 3 x 0.8 mm Body, TDFN-EP, Pb-Free; Code_JEDEC: MO-229-WEEC; ComponentLink1Description: Manufacturer URL; ComponentLink1URL: http://www.maxim-ic.com; ComponentLink2Description: Datasheet; ComponentLink2URL: http://datasheets.maxim-ic.com/en/ds/MAX16023-MAX16024.pdf; ComponentLink3Description: Package Specification; ComponentLink3URL: http://pdfserv.maxim-ic.com/package_dwgs/21-0137.PDF
footprint T833+2 (SON, 8-Leads, Body 3x3 mm, Pitch 0.65mm, Thermal Pad 2.35x1.58mm, Maxim Recommended)
pins: 1 VCC (power), 2 BATT (power), 3 ~{MR} (in), 4 PFI (in), 5 ~{PFO} (out), 6 GND (power), 7 ~{RESET} (out), 8 OUT (power), 9 EP (power)

## MAX16023LTAL18+T
designator U?
Battery-Backup Circuit with Regulated Output Voltage, 1.2V; 1.8V, 2.5V, 3.0V, 3.3V output, 8-Pin TDFN, -40°C to +85°C, Pb-Free, Tape and Reel; DatasheetVersion: Rev 0, Aug-2008; PackageVersion: revJ, 2009; PackageReference: T833+2; PackageDescription: 8-Pin Plastic Very Very Thin Dual Flatpack No Leads, Exposed Pad, 3 x 3 x 0.8 mm Body, TDFN-EP, Pb-Free; Code_JEDEC: MO-229-WEEC; ComponentLink1Description: Manufacturer URL; ComponentLink1URL: http://www.maxim-ic.com; ComponentLink2Description: Datasheet; ComponentLink2URL: http://datasheets.maxim-ic.com/en/ds/MAX16023-MAX16024.pdf; ComponentLink3Description: Package Specification; ComponentLink3URL: http://pdfserv.maxim-ic.com/package_dwgs/21-0137.PDF
footprint T833+2 (SON, 8-Leads, Body 3x3 mm, Pitch 0.65mm, Thermal Pad 2.35x1.58mm, Maxim Recommended)
pins: 1 VCC (power), 2 BATT (power), 3 ~{MR} (in), 4 PFI (in), 5 ~{PFO} (out), 6 GND (power), 7 ~{RESET} (out), 8 OUT (power), 9 EP (power)

## MAX16023LTAL25+T
designator U?
Battery-Backup Circuit with Regulated Output Voltage, 1.2V; 1.8V, 2.5V, 3.0V, 3.3V output, 8-Pin TDFN, -40°C to +85°C, Pb-Free, Tape and Reel; DatasheetVersion: Rev 0, Aug-2008; PackageVersion: revJ, 2009; PackageReference: T833+2; PackageDescription: 8-Pin Plastic Very Very Thin Dual Flatpack No Leads, Exposed Pad, 3 x 3 x 0.8 mm Body, TDFN-EP, Pb-Free; Code_JEDEC: MO-229-WEEC; ComponentLink1Description: Manufacturer URL; ComponentLink1URL: http://www.maxim-ic.com; ComponentLink2Description: Datasheet; ComponentLink2URL: http://datasheets.maxim-ic.com/en/ds/MAX16023-MAX16024.pdf; ComponentLink3Description: Package Specification; ComponentLink3URL: http://pdfserv.maxim-ic.com/package_dwgs/21-0137.PDF
footprint T833+2 (SON, 8-Leads, Body 3x3 mm, Pitch 0.65mm, Thermal Pad 2.35x1.58mm, Maxim Recommended)
pins: 1 VCC (power), 2 BATT (power), 3 ~{MR} (in), 4 PFI (in), 5 ~{PFO} (out), 6 GND (power), 7 ~{RESET} (out), 8 OUT (power), 9 EP (power)

## MAX16023LTAL33+T
designator U?
Battery-Backup Circuit with Regulated Output Voltage, 1.2V; 1.8V, 2.5V, 3.0V, 3.3V output, 8-Pin TDFN, -40°C to +85°C, Pb-Free, Tape and Reel; DatasheetVersion: Rev 0, Aug-2008; PackageVersion: revJ, 2009; PackageReference: T833+2; PackageDescription: 8-Pin Plastic Very Very Thin Dual Flatpack No Leads, Exposed Pad, 3 x 3 x 0.8 mm Body, TDFN-EP, Pb-Free; Code_JEDEC: MO-229-WEEC; ComponentLink1Description: Manufacturer URL; ComponentLink1URL: http://www.maxim-ic.com; ComponentLink2Description: Datasheet; ComponentLink2URL: http://datasheets.maxim-ic.com/en/ds/MAX16023-MAX16024.pdf; ComponentLink3Description: Package Specification; ComponentLink3URL: http://pdfserv.maxim-ic.com/package_dwgs/21-0137.PDF
footprint T833+2 (SON, 8-Leads, Body 3x3 mm, Pitch 0.65mm, Thermal Pad 2.35x1.58mm, Maxim Recommended)
pins: 1 VCC (power), 2 BATT (power), 3 ~{MR} (in), 4 PFI (in), 5 ~{PFO} (out), 6 GND (power), 7 ~{RESET} (out), 8 OUT (power), 9 EP (power)

## MAX16023LTAM12+T
designator U?
Battery-Backup Circuit with Regulated Output Voltage, 1.2V; 1.8V, 2.5V, 3.0V, 3.3V output, 8-Pin TDFN, -40°C to +85°C, Pb-Free, Tape and Reel; DatasheetVersion: Rev 0, Aug-2008; PackageVersion: revJ, 2009; PackageReference: T833+2; PackageDescription: 8-Pin Plastic Very Very Thin Dual Flatpack No Leads, Exposed Pad, 3 x 3 x 0.8 mm Body, TDFN-EP, Pb-Free; Code_JEDEC: MO-229-WEEC; ComponentLink1Description: Manufacturer URL; ComponentLink1URL: http://www.maxim-ic.com; ComponentLink2Description: Datasheet; ComponentLink2URL: http://datasheets.maxim-ic.com/en/ds/MAX16023-MAX16024.pdf; ComponentLink3Description: Package Specification; ComponentLink3URL: http://pdfserv.maxim-ic.com/package_dwgs/21-0137.PDF
footprint T833+2 (SON, 8-Leads, Body 3x3 mm, Pitch 0.65mm, Thermal Pad 2.35x1.58mm, Maxim Recommended)
pins: 1 VCC (power), 2 BATT (power), 3 ~{MR} (in), 4 PFI (in), 5 ~{PFO} (out), 6 GND (power), 7 ~{RESET} (out), 8 OUT (power), 9 EP (power)

## MAX16023LTAM18+T
designator U?
Battery-Backup Circuit with Regulated Output Voltage, 1.2V; 1.8V, 2.5V, 3.0V, 3.3V output, 8-Pin TDFN, -40°C to +85°C, Pb-Free, Tape and Reel; DatasheetVersion: Rev 0, Aug-2008; PackageVersion: revJ, 2009; PackageReference: T833+2; PackageDescription: 8-Pin Plastic Very Very Thin Dual Flatpack No Leads, Exposed Pad, 3 x 3 x 0.8 mm Body, TDFN-EP, Pb-Free; Code_JEDEC: MO-229-WEEC; ComponentLink1Description: Manufacturer URL; ComponentLink1URL: http://www.maxim-ic.com; ComponentLink2Description: Datasheet; ComponentLink2URL: http://datasheets.maxim-ic.com/en/ds/MAX16023-MAX16024.pdf; ComponentLink3Description: Package Specification; ComponentLink3URL: http://pdfserv.maxim-ic.com/package_dwgs/21-0137.PDF
footprint T833+2 (SON, 8-Leads, Body 3x3 mm, Pitch 0.65mm, Thermal Pad 2.35x1.58mm, Maxim Recommended)
pins: 1 VCC (power), 2 BATT (power), 3 ~{MR} (in), 4 PFI (in), 5 ~{PFO} (out), 6 GND (power), 7 ~{RESET} (out), 8 OUT (power), 9 EP (power)

## MAX16023LTAM25+T
designator U?
Battery-Backup Circuit with Regulated Output Voltage, 1.2V; 1.8V, 2.5V, 3.0V, 3.3V output, 8-Pin TDFN, -40°C to +85°C, Pb-Free, Tape and Reel; DatasheetVersion: Rev 0, Aug-2008; PackageVersion: revJ, 2009; PackageReference: T833+2; PackageDescription: 8-Pin Plastic Very Very Thin Dual Flatpack No Leads, Exposed Pad, 3 x 3 x 0.8 mm Body, TDFN-EP, Pb-Free; Code_JEDEC: MO-229-WEEC; ComponentLink1Description: Manufacturer URL; ComponentLink1URL: http://www.maxim-ic.com; ComponentLink2Description: Datasheet; ComponentLink2URL: http://datasheets.maxim-ic.com/en/ds/MAX16023-MAX16024.pdf; ComponentLink3Description: Package Specification; ComponentLink3URL: http://pdfserv.maxim-ic.com/package_dwgs/21-0137.PDF
footprint T833+2 (SON, 8-Leads, Body 3x3 mm, Pitch 0.65mm, Thermal Pad 2.35x1.58mm, Maxim Recommended)
pins: 1 VCC (power), 2 BATT (power), 3 ~{MR} (in), 4 PFI (in), 5 ~{PFO} (out), 6 GND (power), 7 ~{RESET} (out), 8 OUT (power), 9 EP (power)

## MAX16023LTAM33+T
designator U?
Battery-Backup Circuit with Regulated Output Voltage, 1.2V; 1.8V, 2.5V, 3.0V, 3.3V output, 8-Pin TDFN, -40°C to +85°C, Pb-Free, Tape and Reel; DatasheetVersion: Rev 0, Aug-2008; PackageVersion: revJ, 2009; PackageReference: T833+2; PackageDescription: 8-Pin Plastic Very Very Thin Dual Flatpack No Leads, Exposed Pad, 3 x 3 x 0.8 mm Body, TDFN-EP, Pb-Free; Code_JEDEC: MO-229-WEEC; ComponentLink1Description: Manufacturer URL; ComponentLink1URL: http://www.maxim-ic.com; ComponentLink2Description: Datasheet; ComponentLink2URL: http://datasheets.maxim-ic.com/en/ds/MAX16023-MAX16024.pdf; ComponentLink3Description: Package Specification; ComponentLink3URL: http://pdfserv.maxim-ic.com/package_dwgs/21-0137.PDF
footprint T833+2 (SON, 8-Leads, Body 3x3 mm, Pitch 0.65mm, Thermal Pad 2.35x1.58mm, Maxim Recommended)
pins: 1 VCC (power), 2 BATT (power), 3 ~{MR} (in), 4 PFI (in), 5 ~{PFO} (out), 6 GND (power), 7 ~{RESET} (out), 8 OUT (power), 9 EP (power)

## MAX16023LTAR12+T
designator U?
Battery-Backup Circuit with Regulated Output Voltage, 1.2V; 1.8V, 2.5V, 3.0V, 3.3V output, 8-Pin TDFN, -40°C to +85°C, Pb-Free, Tape and Reel; DatasheetVersion: Rev 0, Aug-2008; PackageVersion: revJ, 2009; PackageReference: T833+2; PackageDescription: 8-Pin Plastic Very Very Thin Dual Flatpack No Leads, Exposed Pad, 3 x 3 x 0.8 mm Body, TDFN-EP, Pb-Free; Code_JEDEC: MO-229-WEEC; ComponentLink1Description: Manufacturer URL; ComponentLink1URL: http://www.maxim-ic.com; ComponentLink2Description: Datasheet; ComponentLink2URL: http://datasheets.maxim-ic.com/en/ds/MAX16023-MAX16024.pdf; ComponentLink3Description: Package Specification; ComponentLink3URL: http://pdfserv.maxim-ic.com/package_dwgs/21-0137.PDF
footprint T833+2 (SON, 8-Leads, Body 3x3 mm, Pitch 0.65mm, Thermal Pad 2.35x1.58mm, Maxim Recommended)
pins: 1 VCC (power), 2 BATT (power), 3 ~{MR} (in), 4 PFI (in), 5 ~{PFO} (out), 6 GND (power), 7 ~{RESET} (out), 8 OUT (power), 9 EP (power)

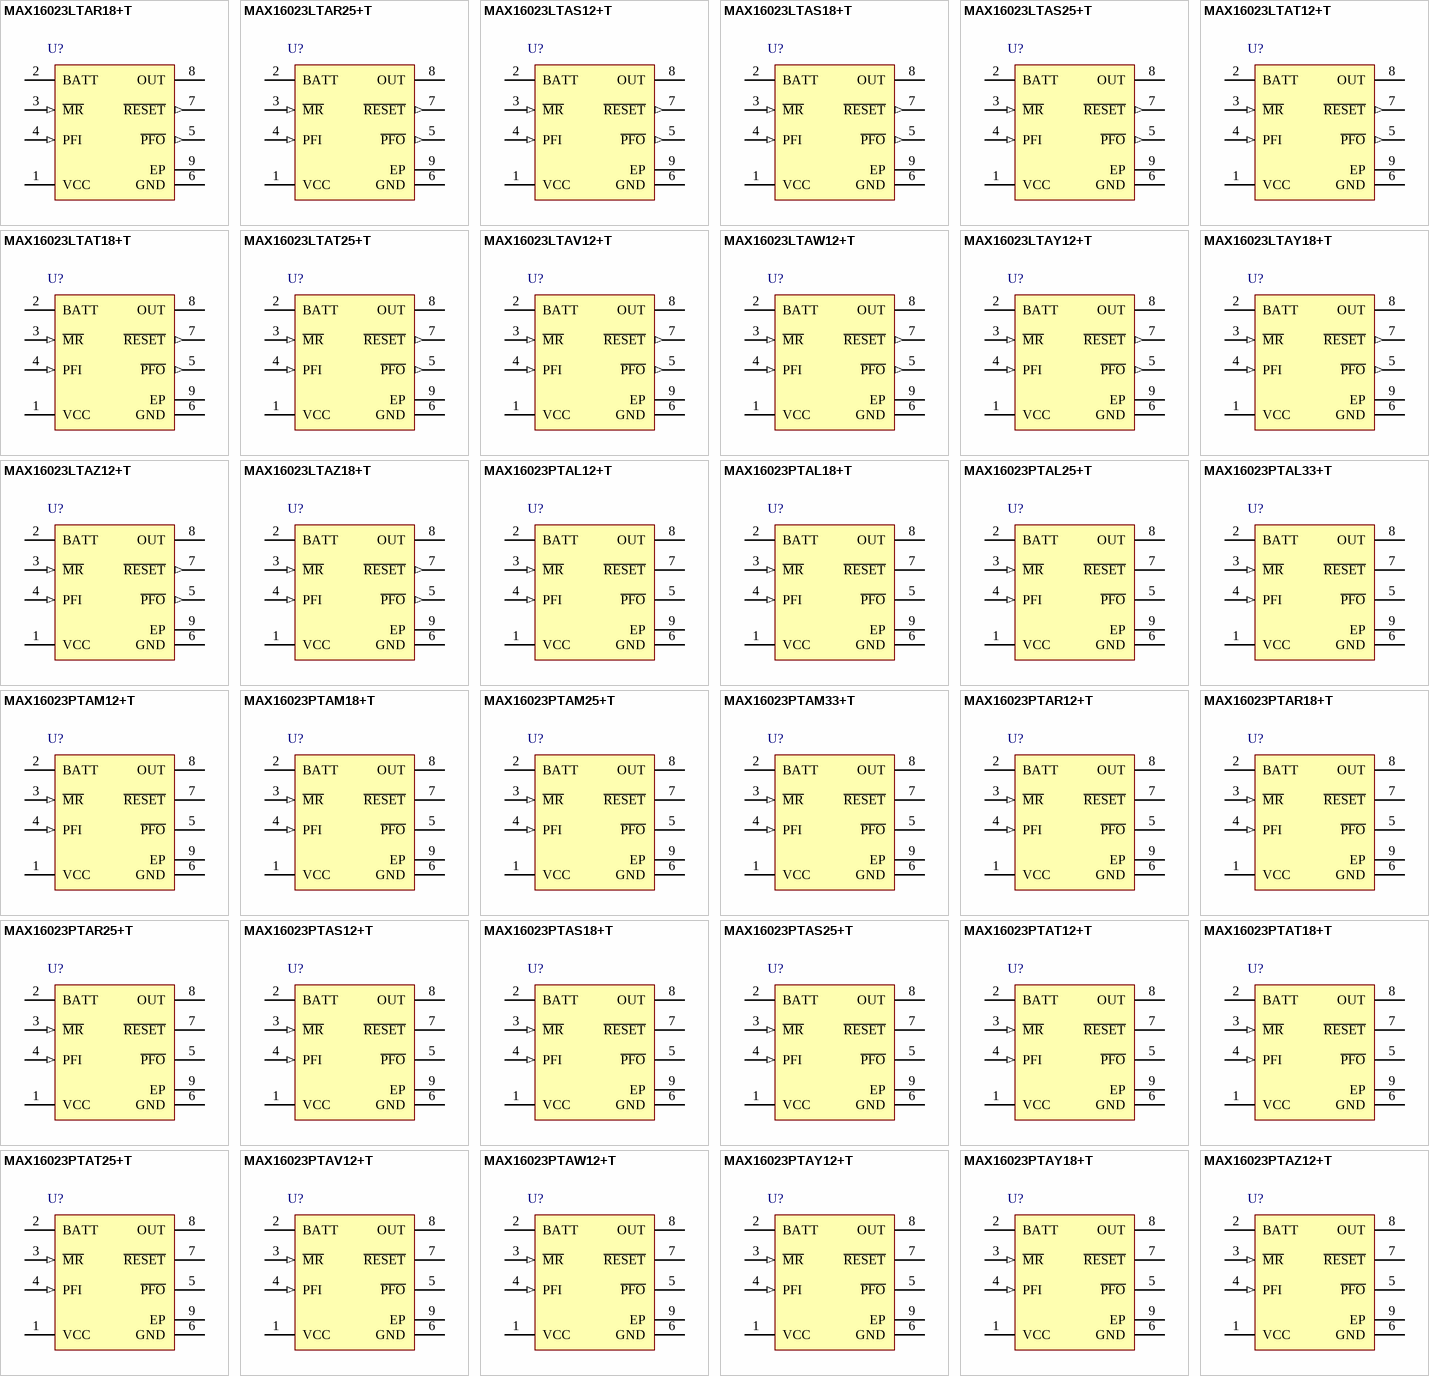
[diagram p5: symbols MAX16023LTAR18+T to MAX16023PTAZ12+T]

## MAX16023LTAR18+T
designator U?
Battery-Backup Circuit with Regulated Output Voltage, 1.2V; 1.8V, 2.5V, 3.0V, 3.3V output, 8-Pin TDFN, -40°C to +85°C, Pb-Free, Tape and Reel; DatasheetVersion: Rev 0, Aug-2008; PackageVersion: revJ, 2009; PackageReference: T833+2; PackageDescription: 8-Pin Plastic Very Very Thin Dual Flatpack No Leads, Exposed Pad, 3 x 3 x 0.8 mm Body, TDFN-EP, Pb-Free; Code_JEDEC: MO-229-WEEC; ComponentLink1Description: Manufacturer URL; ComponentLink1URL: http://www.maxim-ic.com; ComponentLink2Description: Datasheet; ComponentLink2URL: http://datasheets.maxim-ic.com/en/ds/MAX16023-MAX16024.pdf; ComponentLink3Description: Package Specification; ComponentLink3URL: http://pdfserv.maxim-ic.com/package_dwgs/21-0137.PDF
footprint T833+2 (SON, 8-Leads, Body 3x3 mm, Pitch 0.65mm, Thermal Pad 2.35x1.58mm, Maxim Recommended)
pins: 1 VCC (power), 2 BATT (power), 3 ~{MR} (in), 4 PFI (in), 5 ~{PFO} (out), 6 GND (power), 7 ~{RESET} (out), 8 OUT (power), 9 EP (power)

## MAX16023LTAR25+T
designator U?
Battery-Backup Circuit with Regulated Output Voltage, 1.2V; 1.8V, 2.5V, 3.0V, 3.3V output, 8-Pin TDFN, -40°C to +85°C, Pb-Free, Tape and Reel; DatasheetVersion: Rev 0, Aug-2008; PackageVersion: revJ, 2009; PackageReference: T833+2; PackageDescription: 8-Pin Plastic Very Very Thin Dual Flatpack No Leads, Exposed Pad, 3 x 3 x 0.8 mm Body, TDFN-EP, Pb-Free; Code_JEDEC: MO-229-WEEC; ComponentLink1Description: Manufacturer URL; ComponentLink1URL: http://www.maxim-ic.com; ComponentLink2Description: Datasheet; ComponentLink2URL: http://datasheets.maxim-ic.com/en/ds/MAX16023-MAX16024.pdf; ComponentLink3Description: Package Specification; ComponentLink3URL: http://pdfserv.maxim-ic.com/package_dwgs/21-0137.PDF
footprint T833+2 (SON, 8-Leads, Body 3x3 mm, Pitch 0.65mm, Thermal Pad 2.35x1.58mm, Maxim Recommended)
pins: 1 VCC (power), 2 BATT (power), 3 ~{MR} (in), 4 PFI (in), 5 ~{PFO} (out), 6 GND (power), 7 ~{RESET} (out), 8 OUT (power), 9 EP (power)

## MAX16023LTAS12+T
designator U?
Battery-Backup Circuit with Regulated Output Voltage, 1.2V; 1.8V, 2.5V, 3.0V, 3.3V output, 8-Pin TDFN, -40°C to +85°C, Pb-Free, Tape and Reel; DatasheetVersion: Rev 0, Aug-2008; PackageVersion: revJ, 2009; PackageReference: T833+2; PackageDescription: 8-Pin Plastic Very Very Thin Dual Flatpack No Leads, Exposed Pad, 3 x 3 x 0.8 mm Body, TDFN-EP, Pb-Free; Code_JEDEC: MO-229-WEEC; ComponentLink1Description: Manufacturer URL; ComponentLink1URL: http://www.maxim-ic.com; ComponentLink2Description: Datasheet; ComponentLink2URL: http://datasheets.maxim-ic.com/en/ds/MAX16023-MAX16024.pdf; ComponentLink3Description: Package Specification; ComponentLink3URL: http://pdfserv.maxim-ic.com/package_dwgs/21-0137.PDF
footprint T833+2 (SON, 8-Leads, Body 3x3 mm, Pitch 0.65mm, Thermal Pad 2.35x1.58mm, Maxim Recommended)
pins: 1 VCC (power), 2 BATT (power), 3 ~{MR} (in), 4 PFI (in), 5 ~{PFO} (out), 6 GND (power), 7 ~{RESET} (out), 8 OUT (power), 9 EP (power)

## MAX16023LTAS18+T
designator U?
Battery-Backup Circuit with Regulated Output Voltage, 1.2V; 1.8V, 2.5V, 3.0V, 3.3V output, 8-Pin TDFN, -40°C to +85°C, Pb-Free, Tape and Reel; DatasheetVersion: Rev 0, Aug-2008; PackageVersion: revJ, 2009; PackageReference: T833+2; PackageDescription: 8-Pin Plastic Very Very Thin Dual Flatpack No Leads, Exposed Pad, 3 x 3 x 0.8 mm Body, TDFN-EP, Pb-Free; Code_JEDEC: MO-229-WEEC; ComponentLink1Description: Manufacturer URL; ComponentLink1URL: http://www.maxim-ic.com; ComponentLink2Description: Datasheet; ComponentLink2URL: http://datasheets.maxim-ic.com/en/ds/MAX16023-MAX16024.pdf; ComponentLink3Description: Package Specification; ComponentLink3URL: http://pdfserv.maxim-ic.com/package_dwgs/21-0137.PDF
footprint T833+2 (SON, 8-Leads, Body 3x3 mm, Pitch 0.65mm, Thermal Pad 2.35x1.58mm, Maxim Recommended)
pins: 1 VCC (power), 2 BATT (power), 3 ~{MR} (in), 4 PFI (in), 5 ~{PFO} (out), 6 GND (power), 7 ~{RESET} (out), 8 OUT (power), 9 EP (power)

## MAX16023LTAS25+T
designator U?
Battery-Backup Circuit with Regulated Output Voltage, 1.2V; 1.8V, 2.5V, 3.0V, 3.3V output, 8-Pin TDFN, -40°C to +85°C, Pb-Free, Tape and Reel; DatasheetVersion: Rev 0, Aug-2008; PackageVersion: revJ, 2009; PackageReference: T833+2; PackageDescription: 8-Pin Plastic Very Very Thin Dual Flatpack No Leads, Exposed Pad, 3 x 3 x 0.8 mm Body, TDFN-EP, Pb-Free; Code_JEDEC: MO-229-WEEC; ComponentLink1Description: Manufacturer URL; ComponentLink1URL: http://www.maxim-ic.com; ComponentLink2Description: Datasheet; ComponentLink2URL: http://datasheets.maxim-ic.com/en/ds/MAX16023-MAX16024.pdf; ComponentLink3Description: Package Specification; ComponentLink3URL: http://pdfserv.maxim-ic.com/package_dwgs/21-0137.PDF
footprint T833+2 (SON, 8-Leads, Body 3x3 mm, Pitch 0.65mm, Thermal Pad 2.35x1.58mm, Maxim Recommended)
pins: 1 VCC (power), 2 BATT (power), 3 ~{MR} (in), 4 PFI (in), 5 ~{PFO} (out), 6 GND (power), 7 ~{RESET} (out), 8 OUT (power), 9 EP (power)

## MAX16023LTAT12+T
designator U?
Battery-Backup Circuit with Regulated Output Voltage, 1.2V; 1.8V, 2.5V, 3.0V, 3.3V output, 8-Pin TDFN, -40°C to +85°C, Pb-Free, Tape and Reel; DatasheetVersion: Rev 0, Aug-2008; PackageVersion: revJ, 2009; PackageReference: T833+2; PackageDescription: 8-Pin Plastic Very Very Thin Dual Flatpack No Leads, Exposed Pad, 3 x 3 x 0.8 mm Body, TDFN-EP, Pb-Free; Code_JEDEC: MO-229-WEEC; ComponentLink1Description: Manufacturer URL; ComponentLink1URL: http://www.maxim-ic.com; ComponentLink2Description: Datasheet; ComponentLink2URL: http://datasheets.maxim-ic.com/en/ds/MAX16023-MAX16024.pdf; ComponentLink3Description: Package Specification; ComponentLink3URL: http://pdfserv.maxim-ic.com/package_dwgs/21-0137.PDF
footprint T833+2 (SON, 8-Leads, Body 3x3 mm, Pitch 0.65mm, Thermal Pad 2.35x1.58mm, Maxim Recommended)
pins: 1 VCC (power), 2 BATT (power), 3 ~{MR} (in), 4 PFI (in), 5 ~{PFO} (out), 6 GND (power), 7 ~{RESET} (out), 8 OUT (power), 9 EP (power)